# EAGLE library part IS31FL3736 (library LED)
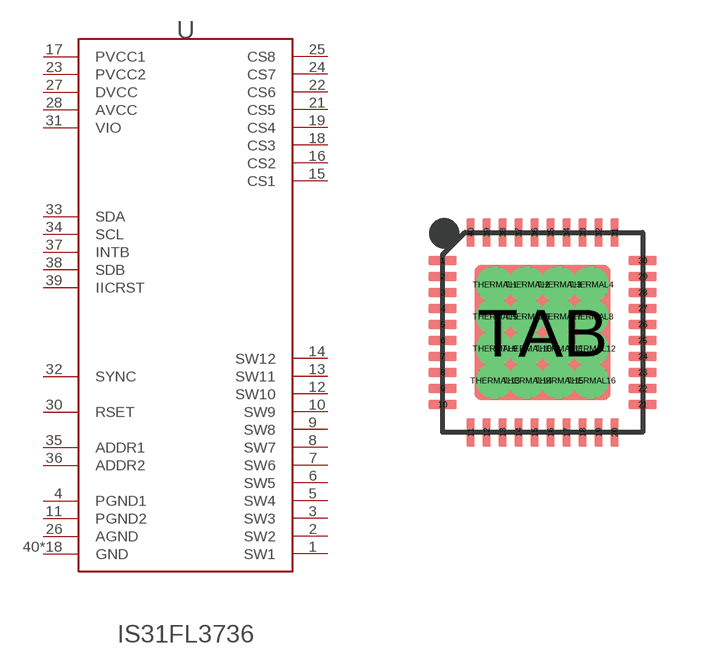
[diagram p1: symbol with the pads of QFN-40-THERMAL; footprint QFN-40-THERMAL]

Designator prefix -

## IS31FL3736  [QFN-40-THERMAL]
1  SW1
2  SW2
3  SW3
4  PGND1
5  SW4
6  SW5
7  SW6
8  SW7
9  SW8
10  SW9
11  PGND2
12  SW10
13  SW11
14  SW12
15  CS1
16  CS2
17  PVCC1
18  CS3
19  CS4
21  CS5
22  CS6
23  PVCC2
24  CS7
25  CS8
26  AGND
27  DVCC
28  AVCC
30  RSET
31  VIO
32  SYNC
33  SDA
34  SCL
35  ADDR1
36  ADDR2
37  INTB
38  SDB
39  IICRST
40  GND
TAB  GND
THERMAL1  GND
THERMAL2  GND
THERMAL3  GND
THERMAL4  GND
THERMAL5  GND
THERMAL6  GND
THERMAL7  GND
THERMAL8  GND
THERMAL9  GND
THERMAL10  GND
THERMAL11  GND
THERMAL12  GND
THERMAL13  GND
THERMAL14  GND
THERMAL15  GND
THERMAL16  GND

## Footprint QFN-40-THERMAL (pad centres in mm)
QFN44 footprint
smd 0.715 x 0.22: 1 -2.5,1.8; 2 -2.5,1.4; 3 -2.5,1; 4 -2.5,0.6; 5 -2.5,0.2; 6 -2.5,-0.2; 7 -2.5,-0.6; 8 -2.5,-1; 9 -2.5,-1.4; 10 -2.5,-1.8; 21 2.5,-1.8; 22 2.5,-1.4; 23 2.5,-1; 24 2.5,-0.6; 25 2.5,-0.2; 26 2.5,0.2; 27 2.5,0.6; 28 2.5,1; 29 2.5,1.4; 30 2.5,1.8
smd 0.22 x 0.715: 11 -1.8,-2.5; 12 -1.4,-2.5; 13 -1,-2.5; 14 -0.6,-2.5; 15 -0.2,-2.5; 16 0.2,-2.5; 17 0.6,-2.5; 18 1,-2.5; 19 1.4,-2.5; 20 1.8,-2.5; 31 1.8,2.5; 32 1.4,2.5; 33 1,2.5; 34 0.6,2.5; 35 0.2,2.5; 36 -0.2,2.5; 37 -0.6,2.5; 38 -1,2.5; 39 -1.4,2.5; 40 -1.8,2.5
smd 3.4 x 3.4: TAB 0,0
drill 0.4 pad 0.5: THERMAL1 -1.2,1.2; THERMAL2 -0.4,1.2; THERMAL3 0.4,1.2; THERMAL4 1.2,1.2; THERMAL5 -1.2,0.4; THERMAL6 -0.4,0.4; THERMAL7 0.4,0.4; THERMAL8 1.2,0.4; THERMAL9 -1.2,-0.4; THERMAL10 -0.4,-0.4; THERMAL11 0.4,-0.4; THERMAL12 1.2,-0.4; THERMAL13 -1.2,-1.2; THERMAL14 -0.4,-1.2; THERMAL15 0.4,-1.2; THERMAL16 1.2,-1.2